# Altium schematic symbol library 2013-10-24_00-36-33.SchLib: 2 symbols
Pins are listed as number, name and electrical type; pins without a type are passive.

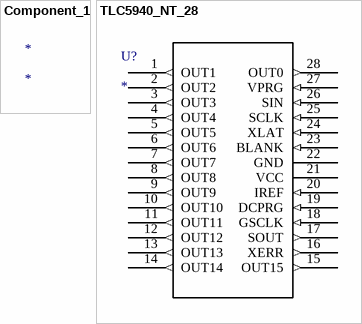
[diagram p0: symbols Component_1 to TLC5940_NT_28]

## Component_1
designator *

## TLC5940_NT_28
designator U?
Imported; Manufacturer_Part_Number: tlc5940_nt_28; GENERIC_PART_NUMBER: TLC5940; Vendor: Texas Instruments; PACKAGE_DESIGNATOR: NT; PIN_COUNT: 28; FAMILY_NAME: LED DRIVER; INDUSTRY_STD_PKG_TYPE: PDIP; Datasheet URL: http://www.ti.com/lit/gpn/TLC5940; Manufacturer: Texas Instruments; RefDes: RefDes; Type: DEV; Value: Value
footprint NT28
pins: 1 OUT1 (out), 2 OUT2 (out), 3 OUT3 (out), 4 OUT4 (out), 5 OUT5 (out), 6 OUT6 (out), 7 OUT7 (out), 8 OUT8 (out), 9 OUT9 (out), 10 OUT10 (out), 11 OUT11 (out), 12 OUT12 (out), 13 OUT13 (out), 14 OUT14 (out), 15 OUT15 (out), 16 XERR (out), 17 SOUT (out), 18 GSCLK (in), 19 DCPRG (in), 20 IREF (in), 21 VCC (power), 22 GND (power), 23 BLANK (in), 24 XLAT (in), 25 SCLK (in), 26 SIN (in), 27 VPRG (in), 28 OUT0 (out)